# Altium footprint library CONN_MICRO-MATCH.PcbLib: 9 footprints
Each footprint in its own frame and in the unit in brackets; x right, y up, seen from the top. Pads: shape width x height; smd on the part's side, far side on the other; paste and mask are expansions set on the pad; w line width, h text height; cw(c..) or ccw(c..) is an arc to the next point about the centre after c.
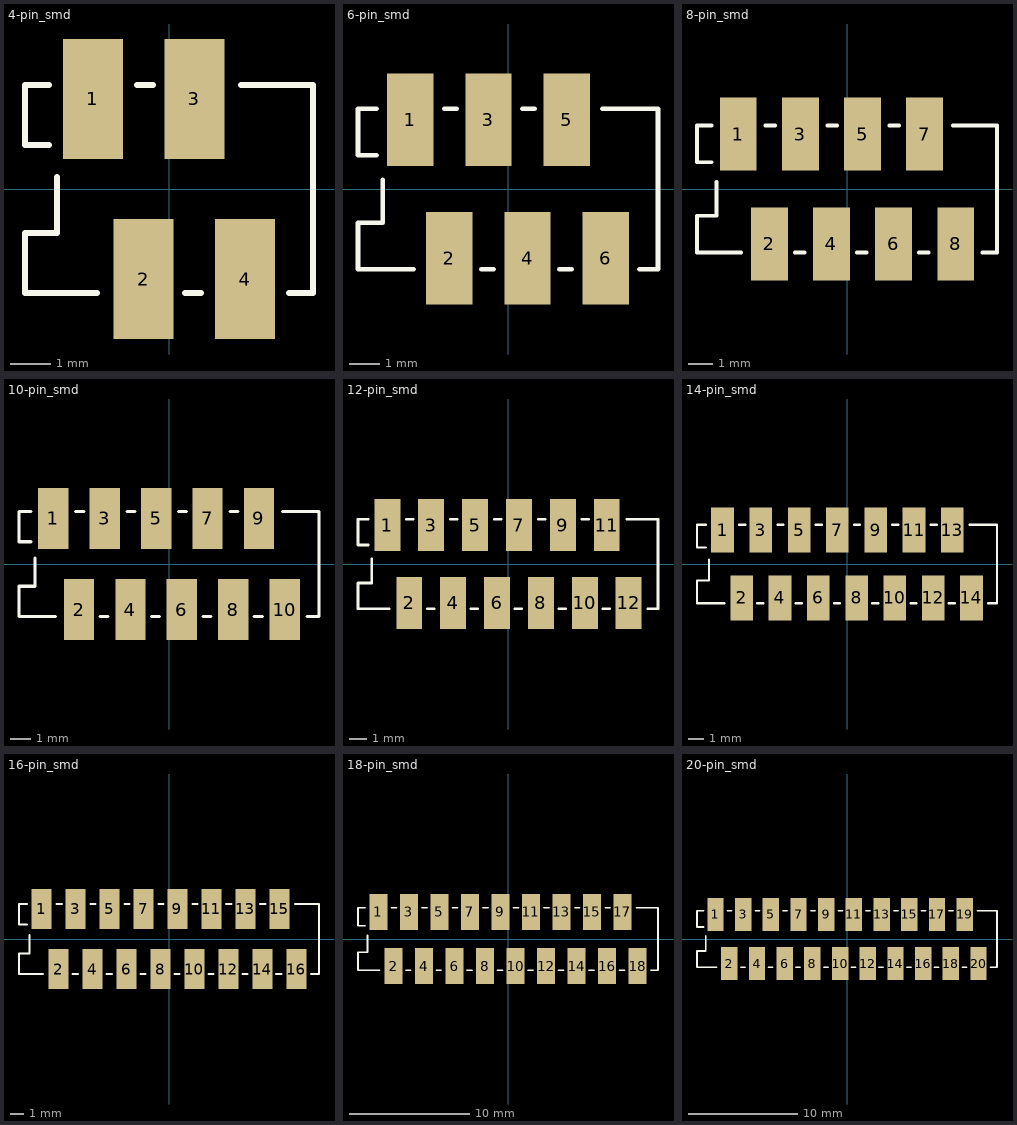
[diagram p0: the footprints below, top view; thin cyan lines are the x and y axes]

## 4-pin_smd [mm] "2178711-4"
pads (4):
  rect 1.5x3 smd mask+0.075: 1(-1.905,2.25) 2(-0.635,-2.25) 3(0.635,2.25) 4(1.905,-2.25)
Top Overlay:
  lines w0.15: -3,1.1 -3.6,1.1 -3.6,2.6 -3,2.6 ; -2.8,0.3 -2.8,-1.1 -3.6,-1.1 -3.6,-2.6 -1.8,-2.6 ; -0.8,2.6 -0.4,2.6 ; 0.4,-2.6 0.8,-2.6 ; 1.8,2.6 3.6,2.6 3.6,-2.6 3,-2.6
3D body "c-2178711-4-1-3d.stp": height 5.52, standoff -0.03, extent -3.505,-3.45 3.505,3.55

## 6-pin_smd [mm] "2178711-6"
pads (6):
  rect 1.5x3 smd mask+0.075: 1(-3.175,2.25) 2(-1.905,-2.25) 3(-0.635,2.25) 4(0.635,-2.25) 5(1.905,2.25) 6(3.175,-2.25)
Top Overlay:
  lines w0.15: -4.27,1.1 -4.87,1.1 -4.87,2.6 -4.27,2.6 ; -4.07,0.3 -4.07,-1.1 -4.87,-1.1 -4.87,-2.6 -3.07,-2.6 ; -2.07,2.6 -1.67,2.6 ; -0.87,-2.6 -0.47,-2.6 ; 0.47,2.6 0.87,2.6 ; 1.67,-2.6 2.07,-2.6 ; 3.07,2.6 4.87,2.6 4.87,-2.6 4.27,-2.6
3D body "c-2178711-6-1-3d.stp": height 5.52, standoff -0.03, extent -4.775,-3.45 4.775,3.55

## 8-pin_smd [mm] "2178711-8"
pads (8):
  rect 1.5x3 smd mask+0.075: 1(-4.445,2.25) 2(-3.175,-2.25) 3(-1.905,2.25) 4(-0.635,-2.25) 5(0.635,2.25) 6(1.905,-2.25) 7(3.175,2.25) 8(4.445,-2.25)
Top Overlay:
  lines w0.15: -5.54,1.1 -6.14,1.1 -6.14,2.6 -5.54,2.6 ; -5.34,0.3 -5.34,-1.1 -6.14,-1.1 -6.14,-2.6 -4.34,-2.6 ; -3.34,2.6 -2.94,2.6 ; -2.14,-2.6 -1.74,-2.6 ; -0.8,2.6 -0.4,2.6 ; 0.4,-2.6 0.8,-2.6 ; 1.74,2.6 2.14,2.6 ; 2.94,-2.6 3.34,-2.6 ; 4.34,2.6 6.14,2.6 6.14,-2.6 5.54,-2.6
3D body "c-2178711-8-1-3d.stp": height 5.52, standoff -0.03, extent -6.045,-3.45 6.045,3.55

## 10-pin_smd [mm] "1-2178711-0"
pads (10):
  rect 1.5x3 smd mask+0.075: 1(-5.715,2.25) 2(-4.445,-2.25) 3(-3.175,2.25) 4(-1.905,-2.25) 5(-0.635,2.25) 6(0.635,-2.25) 7(1.905,2.25) 8(3.175,-2.25) 9(4.445,2.25) 10(5.715,-2.25)
Top Overlay:
  lines w0.15: -6.81,1.1 -7.41,1.1 -7.41,2.6 -6.81,2.6 ; -6.61,0.3 -6.61,-1.1 -7.41,-1.1 -7.41,-2.6 -5.61,-2.6 ; -4.61,2.6 -4.21,2.6 ; -3.41,-2.6 -3.01,-2.6 ; -2.07,2.6 -1.67,2.6 ; -0.87,-2.6 -0.47,-2.6 ; 0.47,2.6 0.87,2.6 ; 1.67,-2.6 2.07,-2.6 ; 3.01,2.6 3.41,2.6 ; 4.21,-2.6 4.61,-2.6 ; 5.61,2.6 7.41,2.6 7.41,-2.6 6.81,-2.6
3D body "c-1-2178711-0-1-3d.stp": height 5.52, standoff -0.03, extent -7.315,-3.45 7.315,3.55

## 12-pin_smd [mm] "1-2178711-2"
pads (12):
  rect 1.5x3 smd mask+0.075: 1(-6.985,2.25) 2(-5.715,-2.25) 3(-4.445,2.25) 4(-3.175,-2.25) 5(-1.905,2.25) 6(-0.635,-2.25) 7(0.635,2.25) 8(1.905,-2.25) 9(3.175,2.25) 10(4.445,-2.25) 11(5.715,2.25) 12(6.985,-2.25)
Top Overlay:
  lines w0.15: -8.08,1.1 -8.68,1.1 -8.68,2.6 -8.08,2.6 ; -7.88,0.3 -7.88,-1.1 -8.68,-1.1 -8.68,-2.6 -6.88,-2.6 ; -5.88,2.6 -5.48,2.6 ; -4.68,-2.6 -4.28,-2.6 ; -3.34,2.6 -2.94,2.6 ; -2.14,-2.6 -1.74,-2.6 ; -0.8,2.6 -0.4,2.6 ; 0.4,-2.6 0.8,-2.6 ; 1.74,2.6 2.14,2.6 ; 2.94,-2.6 3.34,-2.6 ; 4.28,2.6 4.68,2.6 ; 5.48,-2.6 5.88,-2.6 ; 6.88,2.6 8.68,2.6 8.68,-2.6 8.08,-2.6
3D body "c-1-2178711-2-1-3d.stp": height 5.52, standoff -0.03, extent -8.585,-3.45 8.585,3.55

## 14-pin_smd [mm] "1-2178711-4"
pads (14):
  rect 1.5x3 smd mask+0.075: 1(-8.255,2.25) 2(-6.985,-2.25) 3(-5.715,2.25) 4(-4.445,-2.25) 5(-3.175,2.25) 6(-1.905,-2.25) 7(-0.635,2.25) 8(0.635,-2.25) 9(1.905,2.25) 10(3.175,-2.25) 11(4.445,2.25) 12(5.715,-2.25) 13(6.985,2.25) 14(8.255,-2.25)
Top Overlay:
  lines w0.15: -9.35,1.1 -9.95,1.1 -9.95,2.6 -9.35,2.6 ; -9.15,0.3 -9.15,-1.1 -9.95,-1.1 -9.95,-2.6 -8.15,-2.6 ; -7.15,2.6 -6.75,2.6 ; -5.95,-2.6 -5.55,-2.6 ; -4.61,2.6 -4.21,2.6 ; -3.41,-2.6 -3.01,-2.6 ; -2.07,2.6 -1.67,2.6 ; -0.87,-2.6 -0.47,-2.6 ; 0.47,2.6 0.87,2.6 ; 1.67,-2.6 2.07,-2.6 ; 3.01,2.6 3.41,2.6 ; 4.21,-2.6 4.61,-2.6 ; 5.55,2.6 5.95,2.6 ; 6.75,-2.6 7.15,-2.6 ; 8.15,2.6 9.95,2.6 9.95,-2.6 9.35,-2.6
3D body "c-1-2178711-4-1-3d.stp": height 5.52, standoff -0.03, extent -9.855,-3.45 9.855,3.55

## 16-pin_smd [mm] "1-2178711-6"
pads (16):
  rect 1.5x3 smd mask+0.075: 1(-9.525,2.25) 2(-8.255,-2.25) 3(-6.985,2.25) 4(-5.715,-2.25) 5(-4.445,2.25) 6(-3.175,-2.25) 7(-1.905,2.25) 8(-0.635,-2.25) 9(0.635,2.25) 10(1.905,-2.25) 11(3.175,2.25) 12(4.445,-2.25) 13(5.715,2.25) 14(6.985,-2.25) 15(8.255,2.25) 16(9.525,-2.25)
Top Overlay:
  lines w0.15: -10.62,1.1 -11.22,1.1 -11.22,2.6 -10.62,2.6 ; -10.42,0.3 -10.42,-1.1 -11.22,-1.1 -11.22,-2.6 -9.42,-2.6 ; -8.42,2.6 -8.02,2.6 ; -7.22,-2.6 -6.82,-2.6 ; -5.88,2.6 -5.48,2.6 ; -4.68,-2.6 -4.28,-2.6 ; -3.34,2.6 -2.94,2.6 ; -2.14,-2.6 -1.74,-2.6 ; -0.8,2.6 -0.4,2.6 ; 0.4,-2.6 0.8,-2.6 ; 1.74,2.6 2.14,2.6 ; 2.94,-2.6 3.34,-2.6 ; 4.28,2.6 4.68,2.6 ; 5.48,-2.6 5.88,-2.6 ; 6.82,2.6 7.22,2.6 ; 8.02,-2.6 8.42,-2.6 ; 9.42,2.6 11.22,2.6 11.22,-2.6 10.62,-2.6
3D body "c-1-2178711-6-1-3d.stp": height 5.52, standoff -0.03, extent -11.125,-3.45 11.125,3.55

## 18-pin_smd [mm] "1-2178711-8"
pads (18):
  rect 1.5x3 smd mask+0.075: 1(-10.795,2.25) 2(-9.525,-2.25) 3(-8.255,2.25) 4(-6.985,-2.25) 5(-5.715,2.25) 6(-4.445,-2.25) 7(-3.175,2.25) 8(-1.905,-2.25) 9(-0.635,2.25) 10(0.635,-2.25) 11(1.905,2.25) 12(3.175,-2.25) 13(4.445,2.25) 14(5.715,-2.25) 15(6.985,2.25) 16(8.255,-2.25) 17(9.525,2.25) 18(10.795,-2.25)
Top Overlay:
  lines w0.15: -11.89,1.1 -12.49,1.1 -12.49,2.6 -11.89,2.6 ; -11.69,0.3 -11.69,-1.1 -12.49,-1.1 -12.49,-2.6 -10.69,-2.6 ; -9.69,2.6 -9.29,2.6 ; -8.49,-2.6 -8.09,-2.6 ; -7.15,2.6 -6.75,2.6 ; -5.95,-2.6 -5.55,-2.6 ; -4.61,2.6 -4.21,2.6 ; -3.41,-2.6 -3.01,-2.6 ; -2.07,2.6 -1.67,2.6 ; -0.87,-2.6 -0.47,-2.6 ; 0.47,2.6 0.87,2.6 ; 1.67,-2.6 2.07,-2.6 ; 3.01,2.6 3.41,2.6 ; 4.21,-2.6 4.61,-2.6 ; 5.55,2.6 5.95,2.6 ; 6.75,-2.6 7.15,-2.6 ; 8.09,2.6 8.49,2.6 ; 9.29,-2.6 9.69,-2.6 ; 10.69,2.6 12.49,2.6 12.49,-2.6 11.89,-2.6
3D body "c-1-2178711-8-1-3d.stp": height 5.52, standoff -0.03, extent -12.395,-3.45 12.395,3.55

## 20-pin_smd [mm] "2-2178711-0"
pads (20):
  rect 1.5x3 smd mask+0.075: 1(-12.065,2.25) 2(-10.795,-2.25) 3(-9.525,2.25) 4(-8.255,-2.25) 5(-6.985,2.25) 6(-5.715,-2.25) 7(-4.445,2.25) 8(-3.175,-2.25) 9(-1.905,2.25) 10(-0.635,-2.25) 11(0.635,2.25) 12(1.905,-2.25) 13(3.175,2.25) 14(4.445,-2.25) 15(5.715,2.25) 16(6.985,-2.25) 17(8.255,2.25) 18(9.525,-2.25) 19(10.795,2.25) 20(12.065,-2.25)
Top Overlay:
  lines w0.15: -13.16,1.1 -13.76,1.1 -13.76,2.6 -13.16,2.6 ; -12.96,0.3 -12.96,-1.1 -13.76,-1.1 -13.76,-2.6 -11.96,-2.6 ; -10.96,2.6 -10.56,2.6 ; -9.76,-2.6 -9.36,-2.6 ; -8.42,2.6 -8.02,2.6 ; -7.22,-2.6 -6.82,-2.6 ; -5.88,2.6 -5.48,2.6 ; -4.68,-2.6 -4.28,-2.6 ; -3.34,2.6 -2.94,2.6 ; -2.14,-2.6 -1.74,-2.6 ; -0.8,2.6 -0.4,2.6 ; 0.4,-2.6 0.8,-2.6 ; 1.74,2.6 2.14,2.6 ; 2.94,-2.6 3.34,-2.6 ; 4.28,2.6 4.68,2.6 ; 5.48,-2.6 5.88,-2.6 ; 6.82,2.6 7.22,2.6 ; 8.02,-2.6 8.42,-2.6 ; 9.36,2.6 9.76,2.6 ; 10.56,-2.6 10.96,-2.6 ; 11.96,2.6 13.76,2.6 13.76,-2.6 13.16,-2.6
3D body "c-2-2178711-0-1-3d.stp": height 5.52, standoff -0.03, extent -13.665,-3.45 13.665,3.55